# EAGLE library part 6PIN_5_103166_1 (library Connectors)
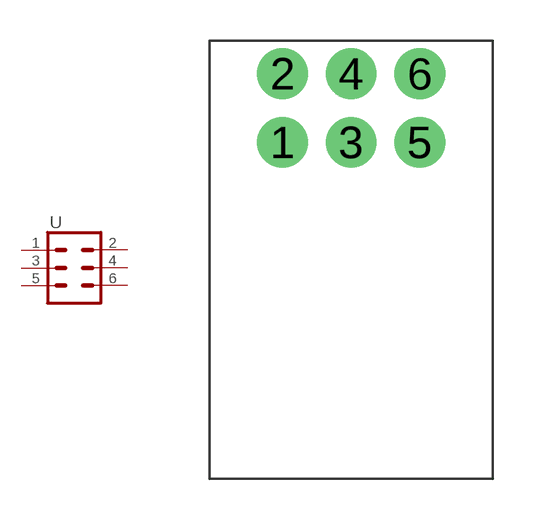
[diagram p2: symbol with the pads of TE_AMPMODU_6_PIN; footprint TE_AMPMODU_6_PIN]

Designator prefix -

## 6PIN_5_103166_1 (MFG: TE; PN: 5-103166-1)  [TE_AMPMODU_6_PIN]
1  1
2  2
3  3
4  4
5  5
6  6

## Footprint TE_AMPMODU_6_PIN (pad centres in mm)
Plated Through Hole - 2x3 Specifications: Pin count:6 Pin pitch:0.1"
drill 1.016 pad 1.88: 1 -2.54,-1.27; 2 -2.54,1.27; 3 0,-1.27; 4 0,1.27; 5 2.54,-1.27; 6 2.54,1.27